# Altium footprint library OKmePCBLibrary.PcbLib: 194 footprints (part 12 of 13)
Each footprint in its own frame and in the unit in brackets; x right, y up, seen from the top. Pads: shape width x height; smd on the part's side, far side on the other; paste and mask are expansions set on the pad; w line width, h text height; cw(c..) or ccw(c..) is an arc to the next point about the centre after c.
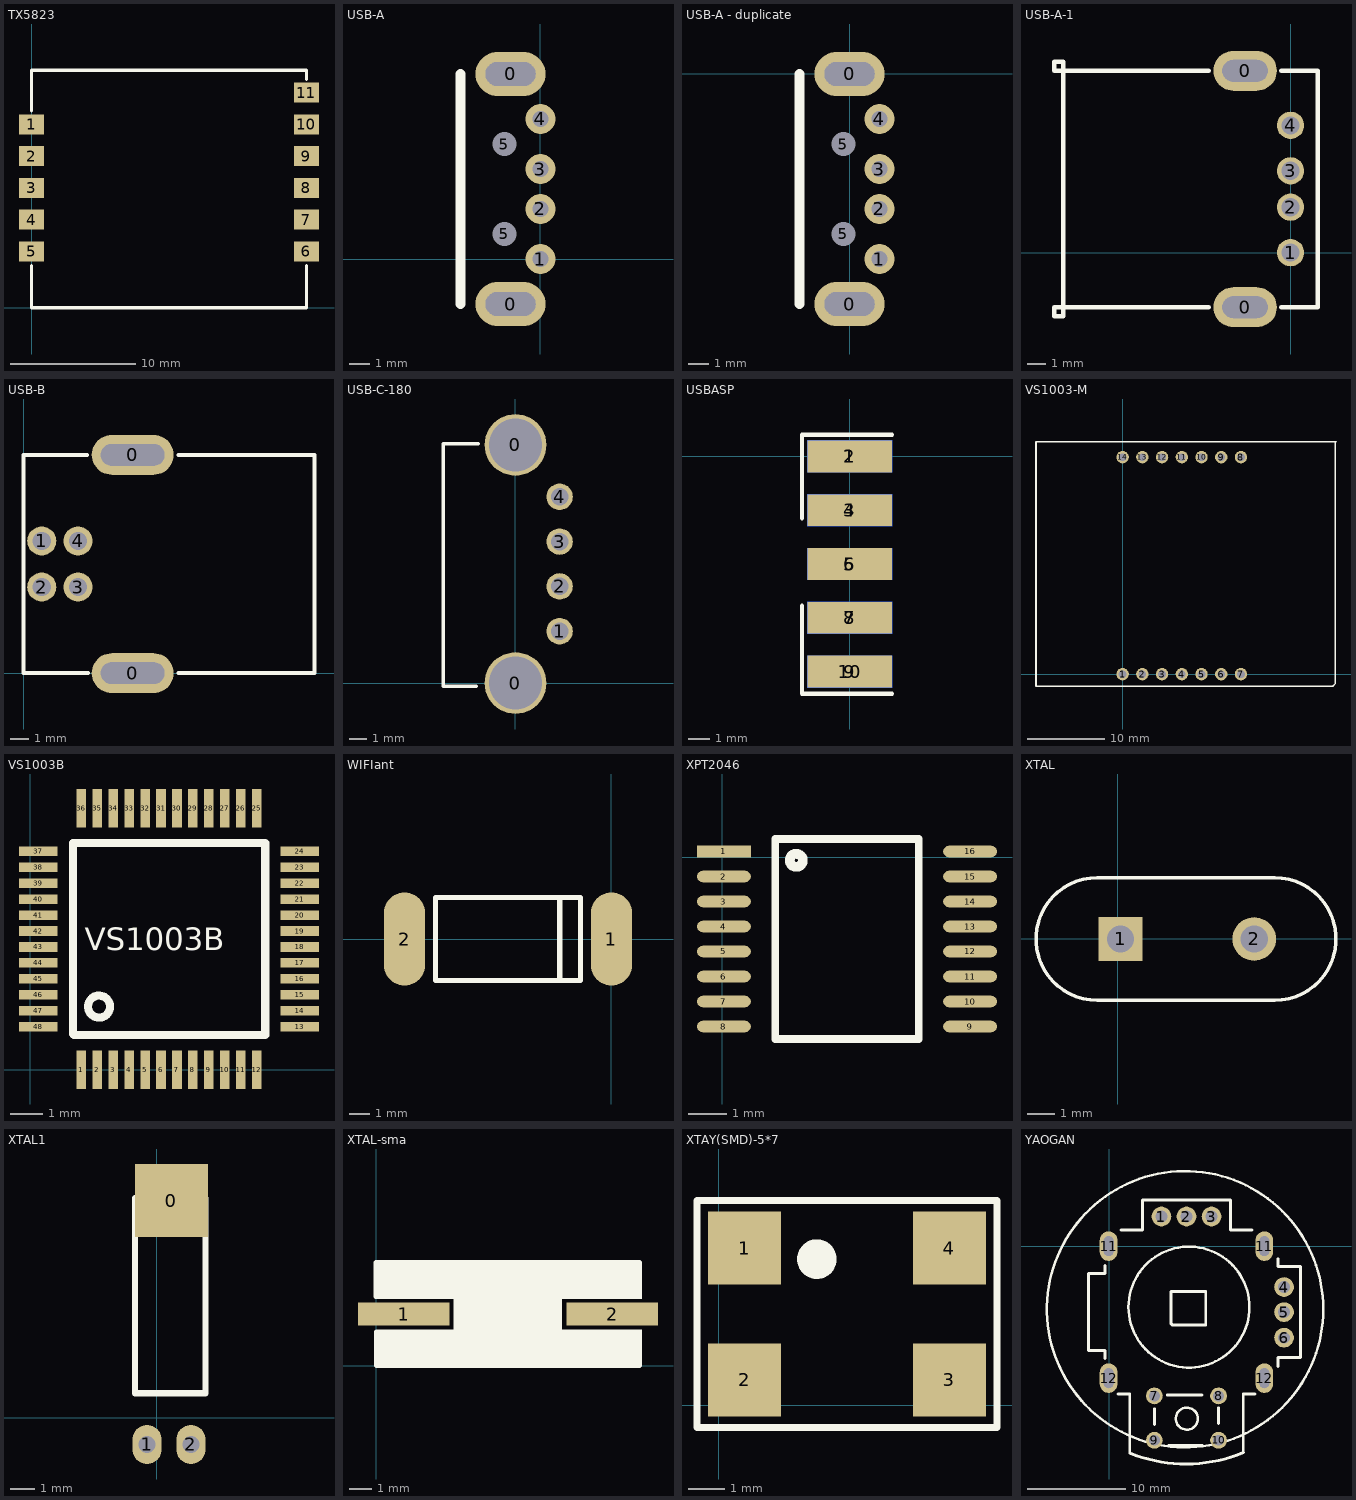
[diagram p11: the footprints below, top view; thin cyan lines are the x and y axes]

## TX5823 [mm]
pads (11):
  rect 2x1.6 smd: 1(0,14.66) 2(0,12.12) 3(0,9.58) 4(0,7.04) 5(0,4.5) 6(22,4.5) 7(22,7.04) 8(22,9.58) 9(22,12.12) 10(22,14.66) 11(22,17.2)
Top Overlay:
  lines w0.254: 0,3.375 0,0 22,0 22,3.375 ; 0,15.75 0,19 22,19 22,18.25

## USB-A [mm]
pads (8):
  oval 3.5x2.2 hole 1.2 slot 2.5 at 0 deg: 0(-1.5,-2.25) 0(-1.5,9.25)
  round 1.5 hole 0.8: 1(0,0) 2(0,2.5) 3(0,4.5) 4(0,7)
  round 1 hole 1.2: 5(-1.8,1.25) 5(-1.8,5.75)
Top Overlay:
  lines w0.508: -4,-2.25 -4,9.25

## USB-A - duplicate [mm]
pads (8):
  oval 3.5x2.2 hole 1.2 slot 2.5 at 0 deg: 0(0,-11.5) 0(0,0)
  round 1.5 hole 0.8: 1(1.5,-9.25) 2(1.5,-6.75) 3(1.5,-4.75) 4(1.5,-2.25)
  round 1 hole 1.2: 5(-0.3,-8) 5(-0.3,-3.5)
Top Overlay:
  lines w0.508: -2.5,-11.5 -2.5,0

## USB-A-1 [mm]
pads (6):
  oval 3.5x2.2 hole 1.2 slot 2.5 at 0 deg: 0(-2.5,-3) 0(-2.5,10)
  round 1.5 hole 1: 1(0,0) 2(0,2.5) 3(0,4.5) 4(0,7)
Top Overlay:
  lines w0.25: -4.5,-3 -13,-3 -13,-3.5 -12.5,-3.5 -12.5,10.5 -13,10.5 -13,10 -4.5,10 ; -0.5,-3 1.5,-3 1.5,10 -0.5,10

## USB-B [mm]
pads (6):
  oval 4.5x2.2 hole 1.2 slot 3.5 at 0 deg: 0(6,0) 0(6,12)
  round 1.6 hole 1: 1(1,7.27) 2(1,4.73) 3(3,4.73) 4(3,7.27)
Top Overlay:
  lines w0.203: 3.5,12 0,12 0,0 3.55,0 ; 8.525,0 16,0 16,12 8.525,12

## USB-C-180 [mm]
pads (6):
  round 3.5 hole 3: 0(0,0) 0(0,13.5)
  round 1.5 hole 1: 1(2.5,2.94) 2(2.5,5.48) 3(2.5,8.02) 4(2.5,10.56)
Top Overlay:
  lines w0.203: -2.225,-0.175 -4.1,-0.175 -4.1,13.575 -2.1,13.575

## USBASP [mm]
pads (10):
  rect 4x1.5 smd: 1(0,0) 3(0,-2.54) 5(0,-5.08) 7(0,-7.62) 9(0,-10.16)
  rect 4x1.5 smd far side: 2(0,0) 4(0,-2.54) 6(0,-5.08) 8(0,-7.62) 10(0,-10.16)
Top Overlay:
  lines w0.203: -2.25,-7.05 -2.25,-11.2 2,-11.2 ; -2.25,-2.925 -2.25,1.025 2,1.025

## VS1003-M [mm]
pads (14):
  round 1.6 hole 1: 1(0,0) 2(2.54,0) 3(5.08,0) 4(7.62,0) 5(10.16,0) 6(12.7,0) 7(15.24,0) 8(15.24,27.94) 9(12.7,27.94) 10(10.16,27.94) 11(7.62,27.94) 12(5.08,27.94) 13(2.54,27.94) 14(0,27.94)
Top Overlay:
  lines w0.203: -11.15,-1.55 -11.15,29.925 27.475,29.925 27.4,29.85 27.4,-1.2 27.05,-1.55 -11.15,-1.55

## VS1003B [mm]
pads (48):
  rect 0.3x1.2 smd: 1(1.6,0) 2(2.1,0) 3(2.6,0) 4(3.1,0) 5(3.6,0) 6(4.1,0) 7(4.6,0) 8(5.1,0) 9(5.6,0) 10(6.1,0) 11(6.6,0) 12(7.1,0) 25(7.1,8.2) 26(6.6,8.2) 27(6.1,8.2) 28(5.6,8.2) 29(5.1,8.2) 30(4.6,8.2) 31(4.1,8.2) 32(3.6,8.2) 33(3.1,8.2) 34(2.6,8.2) 35(2.1,8.2) 36(1.6,8.2)
  rect 1.2x0.3 smd: 13(8.45,1.35) 14(8.45,1.85) 15(8.45,2.35) 16(8.45,2.85) 17(8.45,3.35) 18(8.45,3.85) 19(8.45,4.35) 20(8.45,4.85) 21(8.45,5.35) 22(8.45,5.85) 23(8.45,6.35) 24(8.45,6.85) 37(0.25,6.85) 38(0.25,6.35) 39(0.25,5.85) 40(0.25,5.35) 41(0.25,4.85) 42(0.25,4.35) 43(0.25,3.85) 44(0.25,3.35) 45(0.25,2.85) 46(0.25,2.35) 47(0.25,1.85) 48(0.25,1.35)
Top Overlay:
  circle w0.254: c2.159,1.981 r0.345
  lines w0.254: 1.346,1.118 1.371,1.092 7.366,1.092 7.366,7.112 1.346,7.112 1.346,1.118
  text "VS1003B" at 1.703,3.741 h0.71

## WIFIant [mm]
pads (2):
  oval 2x4.5 smd: 1(0,0) 2(-10,0)
Top Overlay:
  lines w0.254: -2.5,-2 -2.5,2 ; -8.5,-2 -8.5,2 -1.5,2 -1.5,-2 -8.5,-2

## XPT2046 [mm]
pads (16):
  rect 1.4x0.3 smd: 1(0.05,0.15)
  oval 1.4x0.3 smd: 2(0.05,-0.5) 3(0.05,-1.15) 4(0.05,-1.8) 5(0.05,-2.45) 6(0.05,-3.1) 7(0.05,-3.75) 8(0.05,-4.4) 9(6.45,-4.4) 10(6.45,-3.75) 11(6.45,-3.1) 12(6.45,-2.45) 13(6.45,-1.8) 14(6.45,-1.15) 15(6.45,-0.5) 16(6.45,0.15)
Top Overlay:
  circle w0.254: c1.93,-0.079 r0.17
  lines w0.2: 1.385,-4.725 5.115,-4.725 5.115,0.475 1.385,0.475 1.385,-4.725

## XTAL [mm]
pads (2):
  rect 1.6x1.6 hole 1: 1(0.1,0)
  round 1.6 hole 1: 2(5,0)
Top Overlay:
  lines w0.127: -0.75,-2.25 cw(c-0.75,0) -0.75,2.25 5.75,2.25 cw(c5.75,0) 5.75,-2.25 -0.75,-2.25

## XTAL1 [mm]
pads (3):
  rect 3x3 smd: 0(0.6,8.9)
  oval 1.2x1.6 hole 0.7: 1(-0.4,-1.1) 2(1.4,-1.1)
Top Overlay:
  lines w0.254: -0.9,1 2,1 2,9 -0.9,9 -0.9,1

## XTAL-sma [mm]
pads (2):
  rect 4x1 smd: 1(1.2,2.25) 2(10.3,2.25)
Top Overlay:
  rectangle: 3.375,1.375 8.1,3.075
  rectangle: 0,0 11.6,1.575
  rectangle: 0,2.9 11.6,4.475
  lines w0.2: -0.025,3 -0.025,4.5 ; 0,1.475 0,0 11.5,0 ; 0,4.5 11.5,4.5

## XTAY(SMD)-5*7 [mm]
pads (4):
  rect 2x2 smd: 1(0.7,4.3) 2(0.7,0.7) 3(6.3,0.7) 4(6.3,4.3)
Top Overlay:
  circle w0.635: c2.676,4 r0.224
  lines w0.2: -0.6,-0.6 -0.6,5.6 7.6,5.6 7.6,-0.6 -0.6,-0.6

## YAOGAN [mm]
pads (14):
  round 2 hole 1.2: 1(5.3,3) 2(7.84,3) 3(10.38,3) 4(17.73,-4.15) 5(17.73,-6.69) 6(17.73,-9.28)
  round 1.7 hole 1.1: 7(4.59,-15.18) 8(11.09,-15.18) 9(4.59,-19.68) 10(11.09,-19.68)
  oval 1.8x3 hole 1 slot 2 at 90 deg: 11(-0.05,0) 11(15.73,0) 12(-0.05,-13.38) 12(15.73,-13.38)
Top Overlay:
  circle w0.254: c7.7,-6.4 r14
  circle w0.254: c7.872,-17.48 r1.118
  circle w0.254: c8.09,-6.18 r6.129
  lines w0.3: -0.41,-11.38 -0.41,-10.58 -2.11,-10.58 -2.11,-2.78 -0.41,-2.78 -0.41,-1.98 ; 0.89,-14.98 2.09,-14.98 2.09,-20.98 ; 1.19,1.62 3.39,1.62 3.39,4.66 12.29,4.66 ; 2.093,-20.972 ccw(c7.79,-6.88) 13.608,-20.923 ; 4.59,-18.08 4.59,-16.48 ; 5.89,-15.08 9.39,-15.08 ; 6.09,-20.18 9.39,-20.18 ; 11.09,-17.98 11.09,-16.38 ; 12.29,4.6 12.29,1.62 14.49,1.62 ; 13.59,-20.88 13.59,-14.98 14.79,-14.98 ; 17.09,-12.18 17.09,-11.28 17.59,-11.28 19.39,-11.28 19.39,-2.08 17.19,-2.08 ; 17.09,-2.08 17.09,-1.28 ; 6.29,-7.88 6.29,-4.58 9.79,-4.58 9.79,-7.98 6.39,-7.98 6.29,-7.88